# EAGLE library part PIN_HDR_EDG_1.27MM_3-2 (library open-bldc)
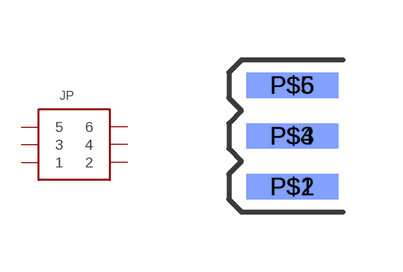
[diagram p9: symbol with the pads of PIN_HDR_EDG_1.27MM_3-2; footprint PIN_HDR_EDG_1.27MM_3-2]

Designator prefix JP

## PIN_HDR_EDG_1.27MM_3-2  [PIN_HDR_EDG_1.27MM_3-2]
P$1  1
P$2  2
P$3  3
P$4  4
P$5  5
P$6  6

## Footprint PIN_HDR_EDG_1.27MM_3-2 (pad centres in mm)
smd 2.3 x 0.635: P$1 0,0; P$3 0,1.27; P$5 0,2.54
smd 2.3 x 0.635 bottom: P$2 0,0; P$4 0,1.27; P$6 0,2.54